# Altium schematic symbol library RS_inductors.SchLib: 7 symbols
Pins are listed as number, name and electrical type; pins without a type are passive.

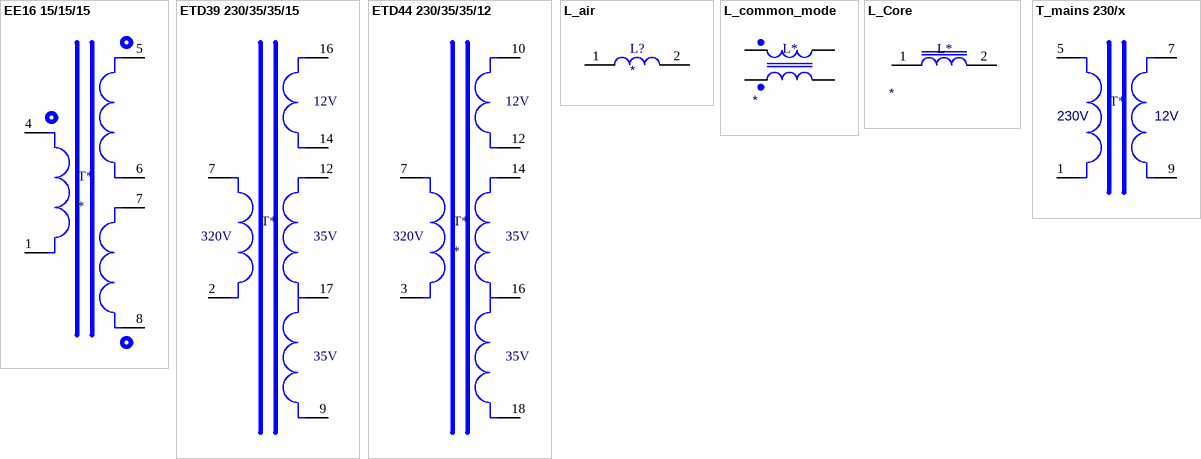
[diagram p0: symbols EE16 15/15/15 to T_mains 230/x]

## EE16 15/15/15
designator T*
Gate drive transformer
footprint EE16/8/5 horizontal (Feryster EF16-K-H-8P-T1618)
pins: 1, 4, 5, 6, 7, 8

## ETD39 230/35/35/15
designator T*
SMPS transformer for audio
footprint ETD39/20/13 horizontal
pins: 2, 7 0, 9, 12, 14, 16, 17
text: 12V; 320V; 35V

## ETD44 230/35/35/12
designator T*
SMPS transformer for audio
footprint ETD44/22/15 18pin horizontal
pins: 3 1, 7 0, 10 2, 12 3, 14, 16 5, 18
text: 12V; 320V; 35V

## L_air
designator L?
Value: *
footprint ind_1_1uH
pins: 1, 2

## L_common_mode
designator L*
Value: *
footprint DTS-16/0,68/3,0-KM3 (Common mode choke)
pins: 1, 2, 3, 4

## L_Core
designator L*
Value: *
footprint T106_core (Micrometals T106-26 core footprint)
footprint T60_core (Micrometals T60-26 core footprint)
pins: 1, 2

## T_mains 230/x
designator T*  (value not drawn)
mains voltage transformer, single secondary winding
footprint BV EI 302 2903 (PCB mains voltage transformer)
pins: 1, 5, 7, 9
text: 230V; 12V